# Altium schematic symbol library GENERIC.SchLib: 20 symbols
Pins are listed as number, name and electrical type; pins without a type are passive.

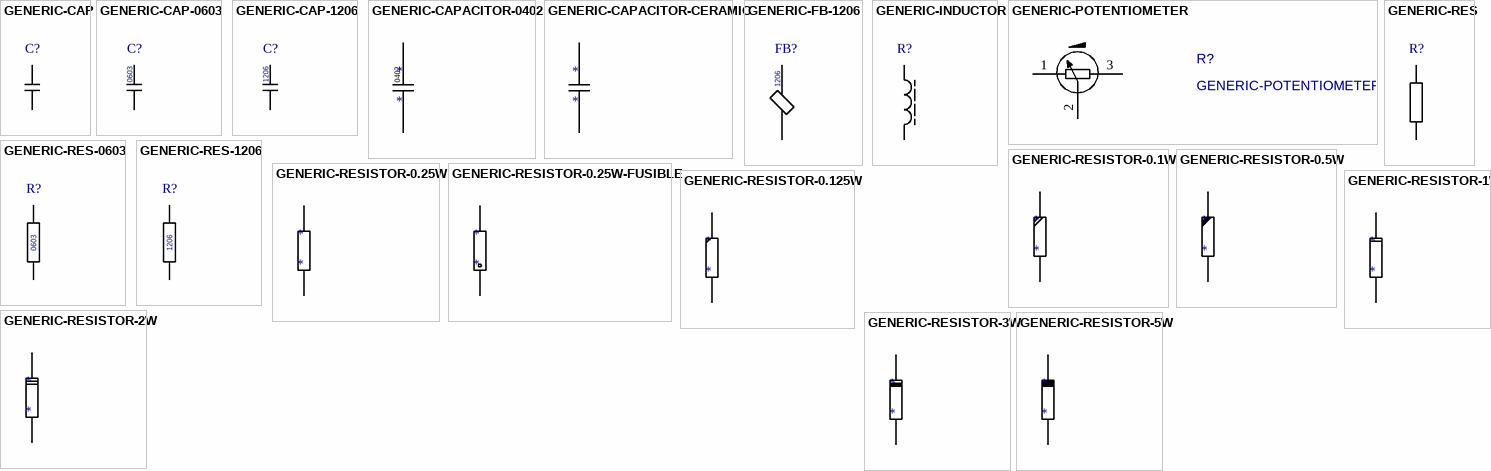
[diagram p0: symbols GENERIC-CAP to GENERIC-RESISTOR-5W]

## GENERIC-CAP
designator C?  (value not drawn)
pins: 1, 2

## GENERIC-CAP-0603
designator C?  (value not drawn)
footprint CAP0603 (Chip Capacitor, 2-Leads, Body 1.60x0.80mm, IPC Medium Density)
pins: 1, 2
text: 0603

## GENERIC-CAP-1206
designator C?  (value not drawn)
footprint CAP1206 (CAPACITOR, CHIP 1206 (3216) 0.85MM THICK)
pins: 1, 2
text: 1206

## GENERIC-CAPACITOR-0402
designator *
pins: 1, 2
text: 0402

## GENERIC-CAPACITOR-CERAMIC
designator *
pins: 1, 2

## GENERIC-FB-1206
designator FB?  (value not drawn)
footprint FB1206 (FERRITE BEAD, CHIP 1206 (3216))
pins: 1, 2
text: 1206

## GENERIC-INDUCTOR
designator R?  (value not drawn)
pins: 1, 2

## GENERIC-POTENTIOMETER
designator R?
GENERIC POTENTIOMETER
pins: 1, 2, 3

## GENERIC-RES
designator R?  (value not drawn)
pins: 1, 2

## GENERIC-RES-0603
designator R?  (value not drawn)
footprint RES0603 (Chip Resistor, 2-Leads, Body 1.60x0.80mm, IPC Medium Density)
pins: 1, 2
text: 0603

## GENERIC-RES-1206
designator R?  (value not drawn)
footprint RES1206 (RESISTOR, CHIP 1206 (3216))
pins: 1, 2
text: 1206

## GENERIC-RESISTOR-0.1W
designator *
pins: 1, 2

## GENERIC-RESISTOR-0.5W
designator *
pins: 1, 2

## GENERIC-RESISTOR-0.25W
designator *
pins: 1, 2

## GENERIC-RESISTOR-0.25W-FUSIBLE
designator *
pins: 1, 2

## GENERIC-RESISTOR-0.125W
designator *
pins: 1, 2

## GENERIC-RESISTOR-1W
designator *
pins: 1, 2

## GENERIC-RESISTOR-2W
designator *
pins: 1, 2

## GENERIC-RESISTOR-3W
designator *
pins: 1, 2

## GENERIC-RESISTOR-5W
designator *
pins: 1, 2